# Altium footprint library Custom.PcbLib: 48 footprints (part 2 of 3)
Each footprint in its own frame and in the unit in brackets; x right, y up, seen from the top. Pads: shape width x height; smd on the part's side, far side on the other; paste and mask are expansions set on the pad; w line width, h text height; cw(c..) or ccw(c..) is an arc to the next point about the centre after c.
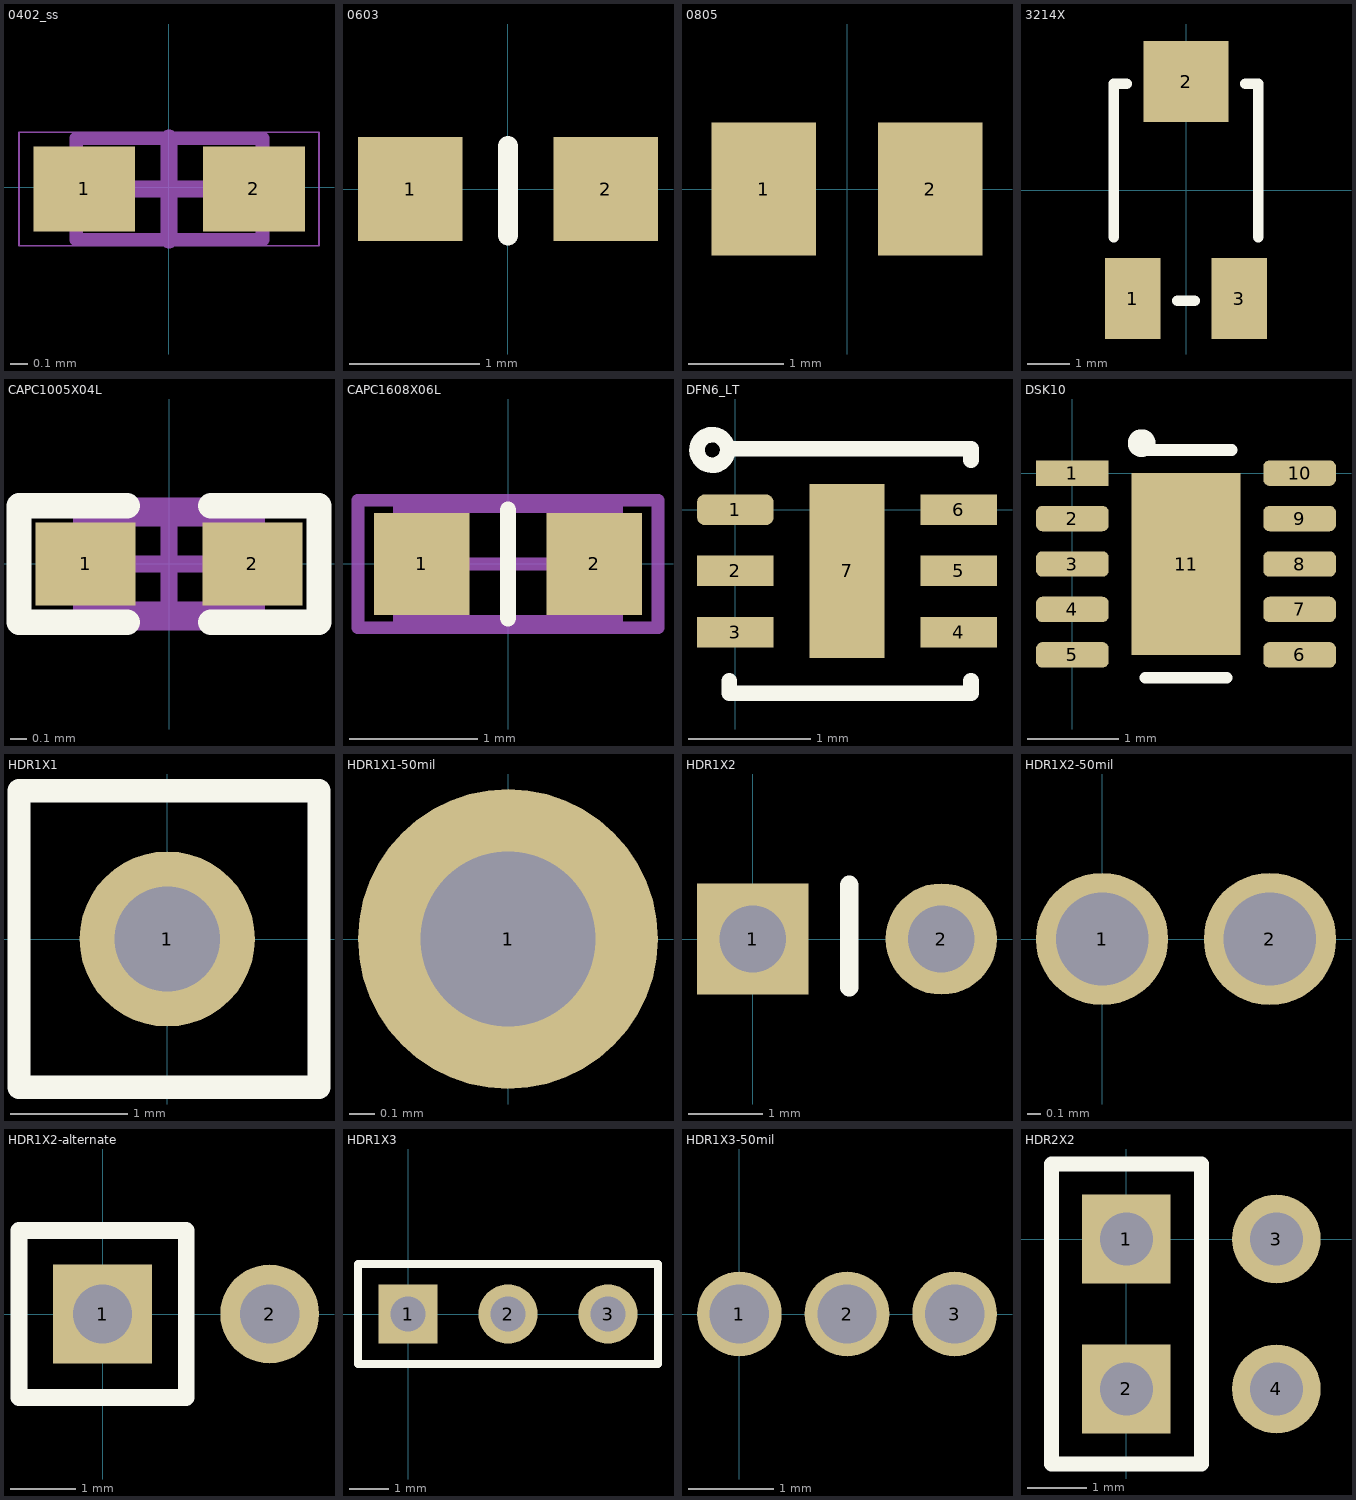
[diagram p1: the footprints below, top view; thin cyan lines are the x and y axes]

## 0402_ss [mm]
pads (2):
  rect 0.6x0.5 smd mask+0.09: 1(-0.498,-0.011) 2(0.502,-0.011)
Mechanical 13:
  lines w0.08: -0.545,-0.311 -0.545,0.289 0.552,0.289 0.552,-0.311 -0.545,-0.311
Mechanical 15:
  lines w0.01: -0.882,-0.346 -0.882,0.322 0.885,0.322 0.885,-0.346 -0.882,-0.346
  lines w0.1: -0.298,-0.011 0.302,-0.011 ; 0.002,-0.311 0.002,0.289
3D body: height 0.7, standoff 0, extent -0.548,-0.312 0.552,0.288

## 0603 [mm]
pads (2):
  rect 0.8x0.8 smd: 1(-0.75,0) 2(0.75,0)
Top Overlay:
  lines w0.152: 0,-0.356 0,0.33
3D body: height 0.4, standoff 0, extent -0.61,-0.356 0.61,0.356
3D body: height 0.4, standoff 0, extent 0.483,-0.356 0.94,0.356
3D body: height 0.4, standoff 0, extent -0.914,-0.356 -0.457,0.356

## 0805 [mm] "Chip Resistor; Body 2 x 1.2 mm (LxW typ)"
height 0.7
pads (2):
  rect 1.1x1.4 smd: 1(-0.875,0) 2(0.875,0)

## 3214X [mm] "Bournes trimmer resistor"
pads (3):
  rect 1.3x1.9 smd: 1(-1.25,-2.55) 3(1.25,-2.55)
  rect 2x1.9 smd: 2(0,2.55)
Top Overlay:
  lines w0.254: -1.7,-1.1 -1.7,2.5 -1.4,2.5 ; -0.2,-2.6 0.2,-2.6 ; 1.4,2.5 1.7,2.5 1.7,-1.1

## CAPC1005X04L [mm]
pads (2):
  rect 0.6x0.5 smd: 1(-0.5,0) 2(0.5,0)
Top Overlay:
  lines w0.152: -0.25,-0.35 -0.9,-0.35 -0.9,0.35 -0.25,0.35 ; 0.25,-0.35 0.9,-0.35 0.9,0.35 0.25,0.35
Mechanical 13:
  lines w0.1: -0.525,-0.275 0.525,-0.275 0.525,0.275 -0.525,0.275 -0.525,-0.275
Mechanical 15:
  lines w0.1: -0.275,0 0.275,0 ; 0,-0.275 0,0.275 ; -0.9,-0.35 -0.9,0.35 0.9,0.35 0.9,-0.35 -0.9,-0.35
3D body: height 0.5, standoff -0.01, extent -0.508,-0.254 0.508,0.254

## CAPC1608X06L [mm]
pads (2):
  rect 0.75x0.8 smd: 1(-0.675,0) 2(0.675,0)
Top Overlay:
  lines w0.127: 0,-0.425 0,0.425
Mechanical 13:
  lines w0.1: -0.85,-0.45 -0.85,0.45 0.85,0.45 0.85,-0.45 -0.85,-0.45
Mechanical 15:
  lines w0.1: -0.45,0 0.45,0 ; 0,-0.45 0,0.45 ; -1.175,-0.5 1.175,-0.5 1.175,0.5 -1.175,0.5 -1.175,-0.5
3D body: height 0.8, standoff 0, extent -0.8,-0.43 0.8,0.43

## DFN6_LT [mm]
pads (7):
  rrect50% 0.625x0.25 smd: 1(0,0)
  rect 0.625x0.25 smd: 2(0,-0.5) 3(0,-1) 4(1.825,-1) 5(1.825,-0.5) 6(1.825,0)
  rect 0.61x1.42 smd: 7(0.913,-0.5)
Top Overlay:
  lines w0.127: -0.112,0.39 cw(c-0.188,0.488) -0.1,0.4 ; -0.051,0.5 1.925,0.5 ; -0.05,-1.397 -0.05,-1.5 1.925,-1.5 1.925,-1.397 ; 1.925,0.406 1.925,0.475

## DSK10 [mm]
pads (11):
  rect 0.8x0.28 smd mask+0.07: 1(0,0)
  rrect50% 0.8x0.28 smd mask+0.07: 2(0,-0.5) 3(0,-1) 4(0,-1.5) 5(0,-2) 6(2.5,-2) 7(2.5,-1.5) 8(2.5,-1) 9(2.5,-0.5) 10(2.5,0)
  rect 1.2x2 smd mask+0.07: 11(1.25,-1)
Top Overlay:
  circle w0.254: c0.762,0.33 r0.025
  lines w0.127: 0.762,0.254 1.753,0.254 ; 0.8,-2.25 1.7,-2.25
3D body: height 0.5, standoff 0, extent 0,-2.2 2.5,0.2

## HDR1X1 [mm] "Connector; Header; 1 Position, 100mil pitch"
pads (1):
  round 1.5 hole 0.9: 1(0,0)
Top Overlay:
  lines w0.2: -1.27,-1.27 -1.27,1.27 1.3,1.27 1.3,-1.27 -1.27,-1.27

## HDR1X1-50mil [mm] "Connector; Header; 1 Position, 50mil pitch"
pads (1):
  round 1.2 hole 0.7: 1(0,0)

## HDR1X2 [mm] "Connector; Header; 2 Position, 100mil pitch"
pads (2):
  rect 1.5x1.5 hole 0.9: 1(0,0)
  round 1.5 hole 0.9: 2(2.54,0)
Top Overlay:
  lines w0.254: 1.3,-0.65 1.3,0.725

## HDR1X2-50mil [mm] "Connector; Header; 2 Position, 50mil pitch"
pads (2):
  round 1 hole 0.7: 1(0,0) 2(1.27,0)

## HDR1X2-alternate [mm] "Connector; Header; 2 Position, 100mil pitch"
pads (2):
  rect 1.5x1.5 hole 0.9: 1(0,0)
  round 1.5 hole 0.9: 2(2.54,0)
Top Overlay:
  lines w0.254: -1.27,-1.27 1.27,-1.27 1.27,1.27 -1.27,1.27 -1.27,-1.27

## HDR1X3 [mm] "Connector; Header; 3 Position, 100mil pitch"
pads (3):
  rect 1.5x1.5 hole 0.9: 1(0,0)
  round 1.5 hole 0.9: 2(2.54,0) 3(5.08,0)
Top Overlay:
  lines w0.2: -1.27,-1.27 -1.27,1.27 6.35,1.27 6.35,-1.27 -1.27,-1.27

## HDR1X3-50mil [mm] "Connector; Header; 3 Position, 50mil pitch"
pads (3):
  round 1 hole 0.7: 1(0,0) 2(1.27,0) 3(2.54,0)

## HDR2X2 [mm] "Connector; Header; 4 Position, 100mil pitch"
pads (4):
  rect 1.5x1.5 hole 0.9: 1(0,0) 2(0,-2.54)
  round 1.5 hole 0.9: 3(2.54,0) 4(2.54,-2.54)
Top Overlay:
  lines w0.254: -1.27,-3.81 1.27,-3.81 1.27,1.27 -1.27,1.27 -1.27,-3.81